# EAGLE library part BOOSTER_PACK_CONNECTED (library RitLaunchInitiative)
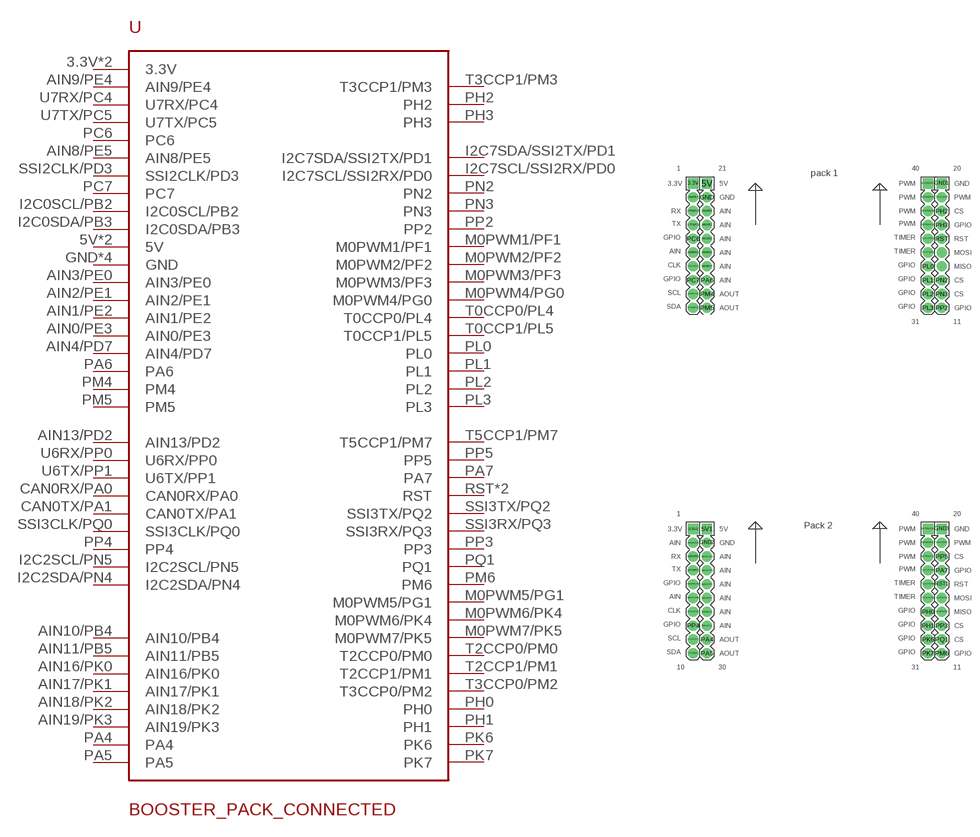
[diagram p3: symbol with the pads of TI_CONNECTED_BOOSTER; footprint TI_CONNECTED_BOOSTER]

Designator prefix -

## BOOSTER_PACK_CONNECTED  [TI_CONNECTED_BOOSTER]
3.3V  3.3V
3.3V1  3.3V
5V  5V
5V1  5V
AIN0/PE3  AIN0/PE3
AIN1/PE2  AIN1/PE2
AIN2/PE1  AIN2/PE1
AIN3/PE0  AIN3/PE0
AIN4/PD7  AIN4/PD7
AIN8/PE5  AIN8/PE5
AIN9/PE4  AIN9/PE4
AIN10/PB4  AIN10/PB4
AIN11/PB5  AIN11/PB5
AIN13/PD2  AIN13/PD2
AIN16/PK0  AIN16/PK0
AIN17/PK1  AIN17/PK1
AIN18/PK2  AIN18/PK2
AIN19/PK3  AIN19/PK3
CAN0RX/PA0  CAN0RX/PA0
CAN0TX/PA1  CAN0TX/PA1
GND  GND
GND1  GND
GND2  GND
GND3  GND
I2C0SCL/PB2  I2C0SCL/PB2
I2C0SDA/PB3  I2C0SDA/PB3
I2C2SCL/PN5  I2C2SCL/PN5
I2C2SDA/PN4  I2C2SDA/PN4
I2C7SCL/SSI2RX/PD0  I2C7SCL/SSI2RX/PD0
I2C7SDA/SSI2TX/PD1  I2C7SDA/SSI2TX/PD1
M0PWM1/PF1  M0PWM1/PF1
M0PWM2/PF2  M0PWM2/PF2
M0PWM3/PF3  M0PWM3/PF3
M0PWM4/PG0  M0PWM4/PG0
M0PWM5/PG1  M0PWM5/PG1
M0PWM6/PK4  M0PWM6/PK4
M0PWM7/PK5  M0PWM7/PK5
PA4  PA4
PA5  PA5
PA6  PA6
PA7  PA7
PC6  PC6
PC7  PC7
PH0  PH0
PH1  PH1
PH2  PH2
PH3  PH3
PK6  PK6
PK7  PK7
PL0  PL0
PL1  PL1
PL2  PL2
PL3  PL3
PM4  PM4
PM5  PM5
PM6  PM6
PN2  PN2
PN3  PN3
PP2  PP2
PP3  PP3
PP4  PP4
PP5  PP5
PQ1  PQ1
RST  RST
RST1  RST
SSI2CLK/PD3  SSI2CLK/PD3
SSI3CLK/PQ0  SSI3CLK/PQ0
SSI3RX/PQ3  SSI3RX/PQ3
SSI3TX/PQ2  SSI3TX/PQ2
T0CCP0/PL4  T0CCP0/PL4
T0CCP1/PL5  T0CCP1/PL5
T2CCP0/PM0  T2CCP0/PM0
T2CCP1/PM1  T2CCP1/PM1
T3CCP0/PM2  T3CCP0/PM2
T3CCP1/PM3  T3CCP1/PM3
T5CCP1/PM7  T5CCP1/PM7
U6RX/PP0  U6RX/PP0
U6TX/PP1  U6TX/PP1
U7RX/PC4  U7RX/PC4
U7TX/PC5  U7TX/PC5

## Footprint TI_CONNECTED_BOOSTER (pad centres in mm)
drill 1.016 pad 1.88 square: 3.3V -22.86,25.4; 3.3V1 -22.86,-38.1; 5V -20.32,25.4; 5V1 -20.32,-38.1; GND1 22.86,25.4; GND3 22.86,-38.1; M0PWM1/PF1 20.32,25.4; M0PWM5/PG1 20.32,-38.1
drill 1.016 pad 1.88: AIN0/PE3 -20.32,12.7; AIN1/PE2 -20.32,15.24; AIN2/PE1 -20.32,17.78; AIN3/PE0 -20.32,20.32; AIN4/PD7 -20.32,10.16; AIN8/PE5 -22.86,12.7; AIN9/PE4 -22.86,22.86; AIN10/PB4 -20.32,-43.18; AIN11/PB5 -20.32,-45.72; AIN13/PD2 -22.86,-40.64; AIN16/PK0 -20.32,-48.26; AIN17/PK1 -20.32,-50.8; AIN18/PK2 -20.32,-53.34; AIN19/PK3 -20.32,-55.88; CAN0RX/PA0 -22.86,-48.26; CAN0TX/PA1 -22.86,-50.8; GND -20.32,22.86; GND2 -20.32,-40.64; I2C0SCL/PB2 -22.86,5.08; I2C0SDA/PB3 -22.86,2.54; I2C2SCL/PN5 -22.86,-58.42; I2C2SDA/PN4 -22.86,-60.96; I2C7SCL/SSI2RX/PD0 22.86,10.16; I2C7SDA/SSI2TX/PD1 22.86,12.7; M0PWM2/PF2 20.32,22.86; M0PWM3/PF3 20.32,20.32; M0PWM4/PG0 20.32,17.78; M0PWM6/PK4 20.32,-40.64; M0PWM7/PK5 20.32,-43.18; PA4 -20.32,-58.42; PA5 -20.32,-60.96; PA6 -20.32,7.62; PA7 22.86,-45.72; PC6 -22.86,15.24; PC7 -22.86,7.62; PH0 20.32,-53.34; PH1 20.32,-55.88; PH2 22.86,20.32; PH3 22.86,17.78; PK6 20.32,-58.42; PK7 20.32,-60.96; PL0 20.32,10.16; PL1 20.32,7.62; PL2 20.32,5.08; PL3 20.32,2.54; PM4 -20.32,5.08; PM5 -20.32,2.54; PM6 22.86,-60.96; PN2 22.86,7.62; PN3 22.86,5.08; PP2 22.86,2.54; PP3 22.86,-55.88; PP4 -22.86,-55.88; PP5 22.86,-43.18; PQ1 22.86,-58.42; RST 22.86,15.24; RST1 22.86,-48.26; SSI2CLK/PD3 -22.86,10.16; SSI3CLK/PQ0 -22.86,-53.34; SSI3RX/PQ3 22.86,-53.34; SSI3TX/PQ2 22.86,-50.8; T0CCP0/PL4 20.32,15.24; T0CCP1/PL5 20.32,12.7; T2CCP0/PM0 20.32,-45.72; T2CCP1/PM1 20.32,-48.26; T3CCP0/PM2 20.32,-50.8; T3CCP1/PM3 22.86,22.86; T5CCP1/PM7 22.86,-40.64; U6RX/PP0 -22.86,-43.18; U6TX/PP1 -22.86,-45.72; U7RX/PC4 -22.86,20.32; U7TX/PC5 -22.86,17.78